# Altium schematic symbol library HRS2H-S-DC24V.SchLib: 1 symbol
Pins are listed as number, name and electrical type; pins without a type are passive.

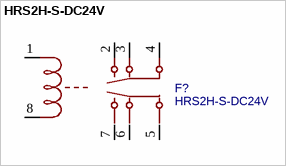
[diagram p0: symbol HRS2H-S-DC24V]

## HRS2H-S-DC24V
designator F?
Manufacturer: HKE(汇港); Supplier: LCSC; Manufacturer Part: HRS2H-S-DC24V; Supplier Part: C12249; JLCPCB Part Class: Extended Part; spicePre: K; spiceSymbolName: HRS2H-S-DC24V
footprint HRS2H-S-DC24V
pins: 1, 2, 3, 4, 5, 6, 7, 8